# Altium integrated library CON- FASTON.IntLib: 1 symbol
Pins are listed as number, name and electrical type; pins without a type are passive.

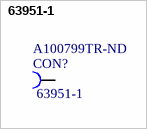
[diagram p0: symbol  63951-1]

##  63951-1
designator CON?, comment 63951-1  Supplier Part Number 1: A100799TR-ND
CONN QC TAB 0.250 SOLDER; Supplier 1: Digi-Key
footprint 63951-1
pins: 1